# EAGLE library part ASMT-YTD7-0AA02 (library ItsyBitsy_Expander_v1.1)
2.1 V, 3.1 V Blue LED PLCC 6 SMD, Broadcom ASMT-YTD7-0AA02 Source: Datasheet <https://docs.broadcom.com/docs/AV02-3873EN>
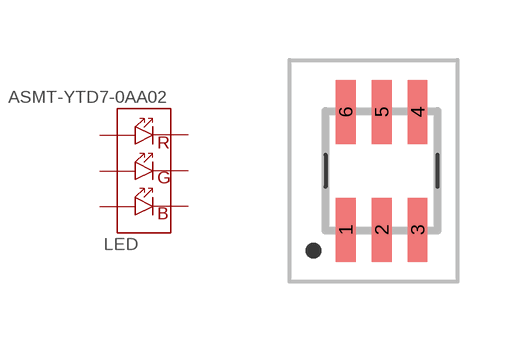
[diagram p0: symbol with the pads of ASMTYTD70AA02; footprint ASMTYTD70AA02]

Designator prefix LED

## ASMT-YTD7-0AA02 (DESCRIPTION: 2.1 V, 3.1 V Blue LED PLCC 6 SMD, Broadcom ASMT-YTD7-0AA02; HEIGHT: 1.8mm; MANUFACTURER_NAME: Avago Technologies; MANUFACTURER_PART_NUMBER: ASMT-YTD7-0AA02; MOUSER_PART_NUMBER: 630-ASMT-YTD7-0AA02; MOUSER_PRICE-STOCK: https://www.mouser.co.uk/ProductDetail/Broadcom-Avago/ASMT-YTD7-0AA02?qs=eJru1qh8zu7rRIK75I%2FMLw%3D%3D)  [ASMTYTD70AA02]
1  K_BLUE
2  K_GREEN
3  K_RED
4  A_RED
5  A_GREEN
6  A_BLUE

## Footprint ASMTYTD70AA02 (pad centres in mm)
ASMT-YTD7-0AA02-3
smd 0.5 x 1.6: 1 -0.9,-1.475; 2 0,-1.475; 3 0.9,-1.475; 4 0.9,1.475; 5 0,1.475; 6 -0.9,1.475